# Altium footprint library USBHUB.PcbLib: 2 footprints
Each footprint in its own frame and in the unit in brackets; x right, y up, seen from the top. Pads: shape width x height; smd on the part's side, far side on the other; paste and mask are expansions set on the pad; w line width, h text height; cw(c..) or ccw(c..) is an arc to the next point about the centre after c.
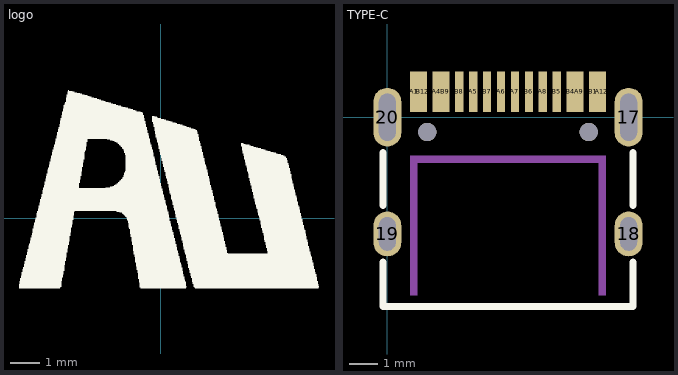
[diagram p0: the footprints below, top view; thin cyan lines are the x and y axes]

## logo [mm]
Top Overlay:
  drawing of 825 lines, arcs and shapes, not listed

## TYPE-C [mm]
pads (22):
  oval 1x2.1 hole 0.6 slot 1.7 at 90 deg: 17(8.64,0) 20(0,0)
  oval 1x1.6 hole 0.6 slot 1.2 at 90 deg: 18(8.64,-4.18) 19(0,-4.18)
  rect 0.3x1.45 smd: A1(0.97,0.913) A4(1.77,0.911) A5(3.07,0.915) A6(4.07,0.915) A7(4.57,0.913) A8(5.57,0.915) A9(6.87,0.915) A12(7.67,0.915) B1(7.37,0.915) B4(6.57,0.915) B5(6.07,0.915) B6(5.07,0.915) B7(3.57,0.913) B8(2.57,0.915) B9(2.07,0.911) B12(1.27,0.913)
  round 0.65 hole 0.65 unplated: ""(1.43,-0.53) ""(7.21,-0.53)
Top Overlay:
  lines w0.254: -0.16,-5.193 -0.16,-6.78 8.8,-6.78 8.8,-5.193 ; -0.16,-3.167 -0.16,-1.263 ; 8.8,-3.167 8.8,-1.263
Top Paste:
  region: 7.22,1.639 7.82,1.639 7.82,0.189 7.22,0.189
  region: 5.92,1.639 6.22,1.639 6.22,0.189 5.92,0.189
  region: 5.42,1.639 5.72,1.639 5.72,0.189 5.42,0.189
  region: 4.92,1.639 5.22,1.639 5.22,0.189 4.92,0.189
  region: 4.42,1.638 4.72,1.638 4.72,0.188 4.42,0.188
  region: 3.92,1.639 4.22,1.639 4.22,0.189 3.92,0.189
  region: 3.42,1.638 3.72,1.638 3.72,0.188 3.42,0.188
  region: 2.92,1.639 3.22,1.639 3.22,0.189 2.92,0.189
  region: 2.42,1.639 2.72,1.639 2.72,0.189 2.42,0.189
  region: -0.5,0.549 -0.5,0.649 -0.424,0.832 -0.283,0.973 -0.1,1.049 0.099,1.049 0.283,0.973 0.424,0.832 0.5,0.649 0.5,0.549 0.5,-0.551 0.5,-0.65 0.424,-0.834 0.283,-0.975 0.099,-1.051 -0.1,-1.051 -0.283,-0.975 -0.424,-0.834 -0.5,-0.65 -0.5,-0.551
  region: 8.14,0.549 8.14,0.649 8.216,0.833 8.357,0.973 8.541,1.049 8.739,1.049 8.923,0.973 9.064,0.833 9.14,0.649 9.14,0.549 9.14,-0.551 9.14,-0.65 9.064,-0.834 8.923,-0.974 8.739,-1.051 8.541,-1.051 8.357,-0.974 8.216,-0.834 8.14,-0.65 8.14,-0.551
  region: 8.14,-3.881 8.14,-3.781 8.216,-3.597 8.357,-3.457 8.541,-3.381 8.739,-3.381 8.923,-3.457 9.064,-3.597 9.14,-3.781 9.14,-3.881 9.14,-4.481 9.14,-4.58 9.064,-4.764 8.923,-4.905 8.739,-4.981 8.541,-4.981 8.357,-4.905 8.216,-4.764 8.14,-4.58 8.14,-4.481
  region: -0.5,-3.881 -0.5,-3.781 -0.424,-3.597 -0.283,-3.457 -0.1,-3.381 0.099,-3.381 0.283,-3.457 0.424,-3.597 0.5,-3.781 0.5,-3.881 0.5,-4.481 0.5,-4.58 0.424,-4.764 0.283,-4.905 0.099,-4.981 -0.1,-4.981 -0.283,-4.905 -0.424,-4.764 -0.5,-4.58 -0.5,-4.481
  region: 6.42,1.639 7.02,1.639 7.02,0.189 6.42,0.189
  region: 1.62,1.635 2.22,1.635 2.22,0.185 1.62,0.185
  region: 0.82,1.638 1.42,1.638 1.42,0.188 0.82,0.188
Mechanical 15:
  region: 0.82,-6.383 0.82,-1.383 1.07,-1.383 1.07,-6.383
  region: 7.82,-6.383 7.82,-1.383 7.57,-1.383 7.57,-6.383
  region: 1.07,-1.383 7.57,-1.383 7.57,-1.633 1.07,-1.633